# Altium footprint library Vishay Draloric Footprints.PcbLib: 285 footprints (part 13 of 18)
Each footprint in its own frame and in the unit in brackets; x right, y up, seen from the top. Pads: shape width x height; smd on the part's side, far side on the other; paste and mask are expansions set on the pad; w line width, h text height; cw(c..) or ccw(c..) is an arc to the next point about the centre after c.
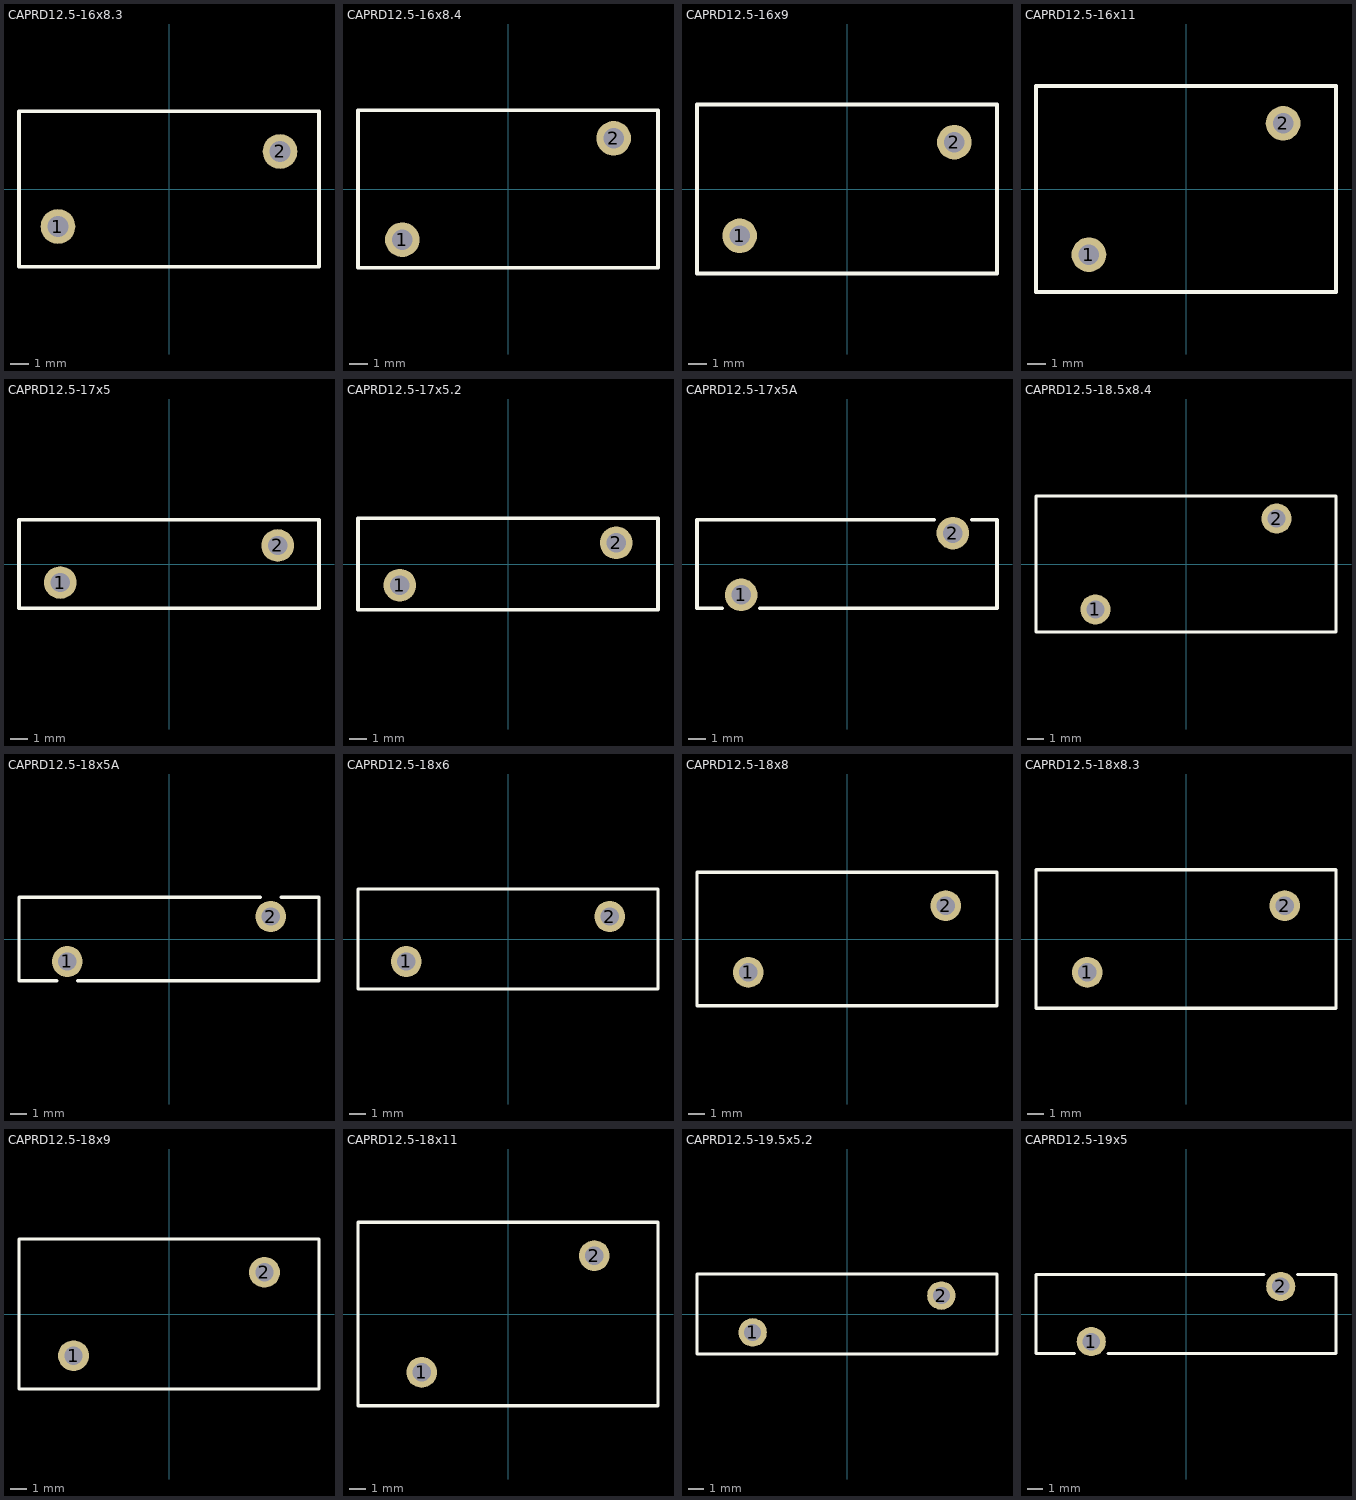
[diagram p12: the footprints below, top view; thin cyan lines are the x and y axes]

## CAPRD12.5-16x8.3 [mm] "Capacitor, Ceramic, Thru-Hole, Disc; Body 16 x 8.3 mm (LxW max) Pin Spacing 12.5 mm (typ)"
height 19
pads (2):
  round 1.85 hole 1.1: 1(-5.921,-2) 2(5.921,2)
Top Overlay:
  lines w0.2: -8,-4.15 8,-4.15 8,4.15 -8,4.15 -8,-4.15

## CAPRD12.5-16x8.4 [mm] "Capacitor, Ceramic, Thru-Hole, Disc; Body 16 x 8.4 mm (LxW max) Pin Spacing 12.5 mm (typ)"
height 19
pads (2):
  round 1.85 hole 1.1: 1(-5.637,-2.7) 2(5.637,2.7)
Top Overlay:
  lines w0.2: -8,-4.2 -8,4.2 8,4.2 8,-4.2 -8,-4.2

## CAPRD12.5-16x9 [mm] "Capacitor, Ceramic, Thru-Hole, Disc; Body 16 x 9 mm (LxW max) Pin Spacing 12.5 mm (typ)"
height 21
pads (2):
  round 1.85 hole 1.1: 1(-5.728,-2.5) 2(5.728,2.5)
Top Overlay:
  lines w0.2: -8,-4.5 -8,4.5 8,4.5 8,-4.5 -8,-4.5

## CAPRD12.5-16x11 [mm] "Capacitor, Ceramic, Thru-Hole, Disc; Body 16 x 11 mm (LxW max) Pin Spacing 12.5 mm (typ)"
height 21
pads (2):
  round 1.85 hole 1.1: 1(-5.178,-3.5) 2(5.178,3.5)
Top Overlay:
  lines w0.2: -8,-5.5 -8,5.5 8,5.5 8,-5.5 -8,-5.5

## CAPRD12.5-17x5 [mm] "Capacitor, Ceramic, Thru-Hole, Disc; Body 17 x 5 mm (LxW max) Pin Spacing 12.5 mm (typ)"
height 20
pads (2):
  round 1.85 hole 1.1: 1(-6.161,-1.05) 2(6.161,1.05)
Top Overlay:
  lines w0.2: -8.5,-2.5 -8.5,2.5 8.5,2.5 8.5,-2.5 -8.5,-2.5

## CAPRD12.5-17x5.2 [mm] "Capacitor, Ceramic, Thru-Hole, Disc; Body 17 x 5.2 mm (LxW max) Pin Spacing 12.5 mm (typ)"
height 20
pads (2):
  round 1.85 hole 1.1: 1(-6.134,-1.2) 2(6.134,1.2)
Top Overlay:
  lines w0.2: -8.5,-2.6 -8.5,2.6 8.5,2.6 8.5,-2.6 -8.5,-2.6

## CAPRD12.5-17x5A [mm] "Capacitor, Ceramic, Thru-Hole, Disc; Body 17 x 5 mm (LxW max) Pin Spacing 12.5 mm (typ)"
height 20
pads (2):
  round 1.85 hole 1.1: 1(-6,-1.75) 2(6,1.75)
Top Overlay:
  lines w0.2: -7.07,-2.5 -8.5,-2.5 -8.5,2.5 4.93,2.5 ; -4.93,-2.5 8.5,-2.5 8.5,2.5 7.07,2.5

## CAPRD12.5-18.5x8.4 [mm] "Capacitor, Ceramic, Thru-Hole, Disc; Body 18.5 x 8.4 mm (LxW max) Pin Spacing 12.5 mm (typ)"
height 21.5
pads (2):
  round 1.85 hole 1.1: 1(-5.588,-2.8) 2(5.588,2.8)
Top Overlay:
  lines w0.2: -9.25,-4.2 -9.25,4.2 9.25,4.2 9.25,-4.2 -9.25,-4.2

## CAPRD12.5-18x5A [mm] "Capacitor, Ceramic, Thru-Hole, Disc; Body 18 x 5 mm (LxW max) Pin Spacing 12.5 mm (typ)"
height 21
pads (2):
  round 1.85 hole 1.1: 1(-6.102,-1.35) 2(6.102,1.35)
Top Overlay:
  lines w0.2: -6.72,-2.5 -9,-2.5 -9,2.5 5.485,2.5 ; -5.485,-2.5 9,-2.5 9,2.5 6.72,2.5

## CAPRD12.5-18x6 [mm] "Capacitor, Ceramic, Thru-Hole, Disc; Body 18 x 6 mm (LxW max) Pin Spacing 12.5 mm (typ)"
height 21
pads (2):
  round 1.85 hole 1.1: 1(-6.102,-1.35) 2(6.102,1.35)
Top Overlay:
  lines w0.2: -9,-3 9,-3 9,3 -9,3 -9,-3

## CAPRD12.5-18x8 [mm] "Capacitor, Ceramic, Thru-Hole, Disc; Body 18 x 8 mm (LxW max) Pin Spacing 12.5 mm (typ)"
height 23
pads (2):
  round 1.85 hole 1.1: 1(-5.921,-2) 2(5.921,2)
Top Overlay:
  lines w0.2: -9,-4 -9,4 9,4 9,-4 -9,-4

## CAPRD12.5-18x8.3 [mm] "Capacitor, Ceramic, Thru-Hole, Disc; Body 18 x 8.3 mm (LxW max) Pin Spacing 12.5 mm (typ)"
height 21
pads (2):
  round 1.85 hole 1.1: 1(-5.921,-2) 2(5.921,2)
Top Overlay:
  lines w0.2: -9,-4.15 9,-4.15 9,4.15 -9,4.15 -9,-4.15

## CAPRD12.5-18x9 [mm] "Capacitor, Ceramic, Thru-Hole, Disc; Body 18 x 9 mm (LxW max) Pin Spacing 12.5 mm (typ)"
height 23
pads (2):
  round 1.85 hole 1.1: 1(-5.728,-2.5) 2(5.728,2.5)
Top Overlay:
  lines w0.2: -9,-4.5 -9,4.5 9,4.5 9,-4.5 -9,-4.5

## CAPRD12.5-18x11 [mm] "Capacitor, Ceramic, Thru-Hole, Disc; Body 18 x 11 mm (LxW max) Pin Spacing 12.5 mm (typ)"
height 23
pads (2):
  round 1.85 hole 1.1: 1(-5.178,-3.5) 2(5.178,3.5)
Top Overlay:
  lines w0.2: -9,-5.5 -9,5.5 9,5.5 9,-5.5 -9,-5.5

## CAPRD12.5-19.5x5.2 [mm] "Capacitor, Ceramic, Thru-Hole, Disc; Body 19.5 x 5.2 mm (LxW max) Pin Spacing 12.5 mm (typ)"
height 22.5
pads (2):
  round 1.85 hole 1.1: 1(-6.134,-1.2) 2(6.134,1.2)
Top Overlay:
  lines w0.2: -9.75,-2.6 9.75,-2.6 9.75,2.6 -9.75,2.6 -9.75,-2.6

## CAPRD12.5-19x5 [mm] "Capacitor, Ceramic, Thru-Hole, Disc; Body 19 x 5 mm (LxW max) Pin Spacing 12.5 mm (typ)"
height 22
pads (2):
  round 1.85 hole 1.1: 1(-6,-1.75) 2(6,1.75)
Top Overlay:
  lines w0.2: -7.07,-2.5 -9.5,-2.5 -9.5,2.5 4.93,2.5 ; -4.93,-2.5 9.5,-2.5 9.5,2.5 7.07,2.5